# Altium footprint library Misc.PcbLib: 56 footprints (part 1 of 4)
Each footprint in its own frame and in the unit in brackets; x right, y up, seen from the top. Pads: shape width x height; smd on the part's side, far side on the other; paste and mask are expansions set on the pad; w line width, h text height; cw(c..) or ccw(c..) is an arc to the next point about the centre after c.
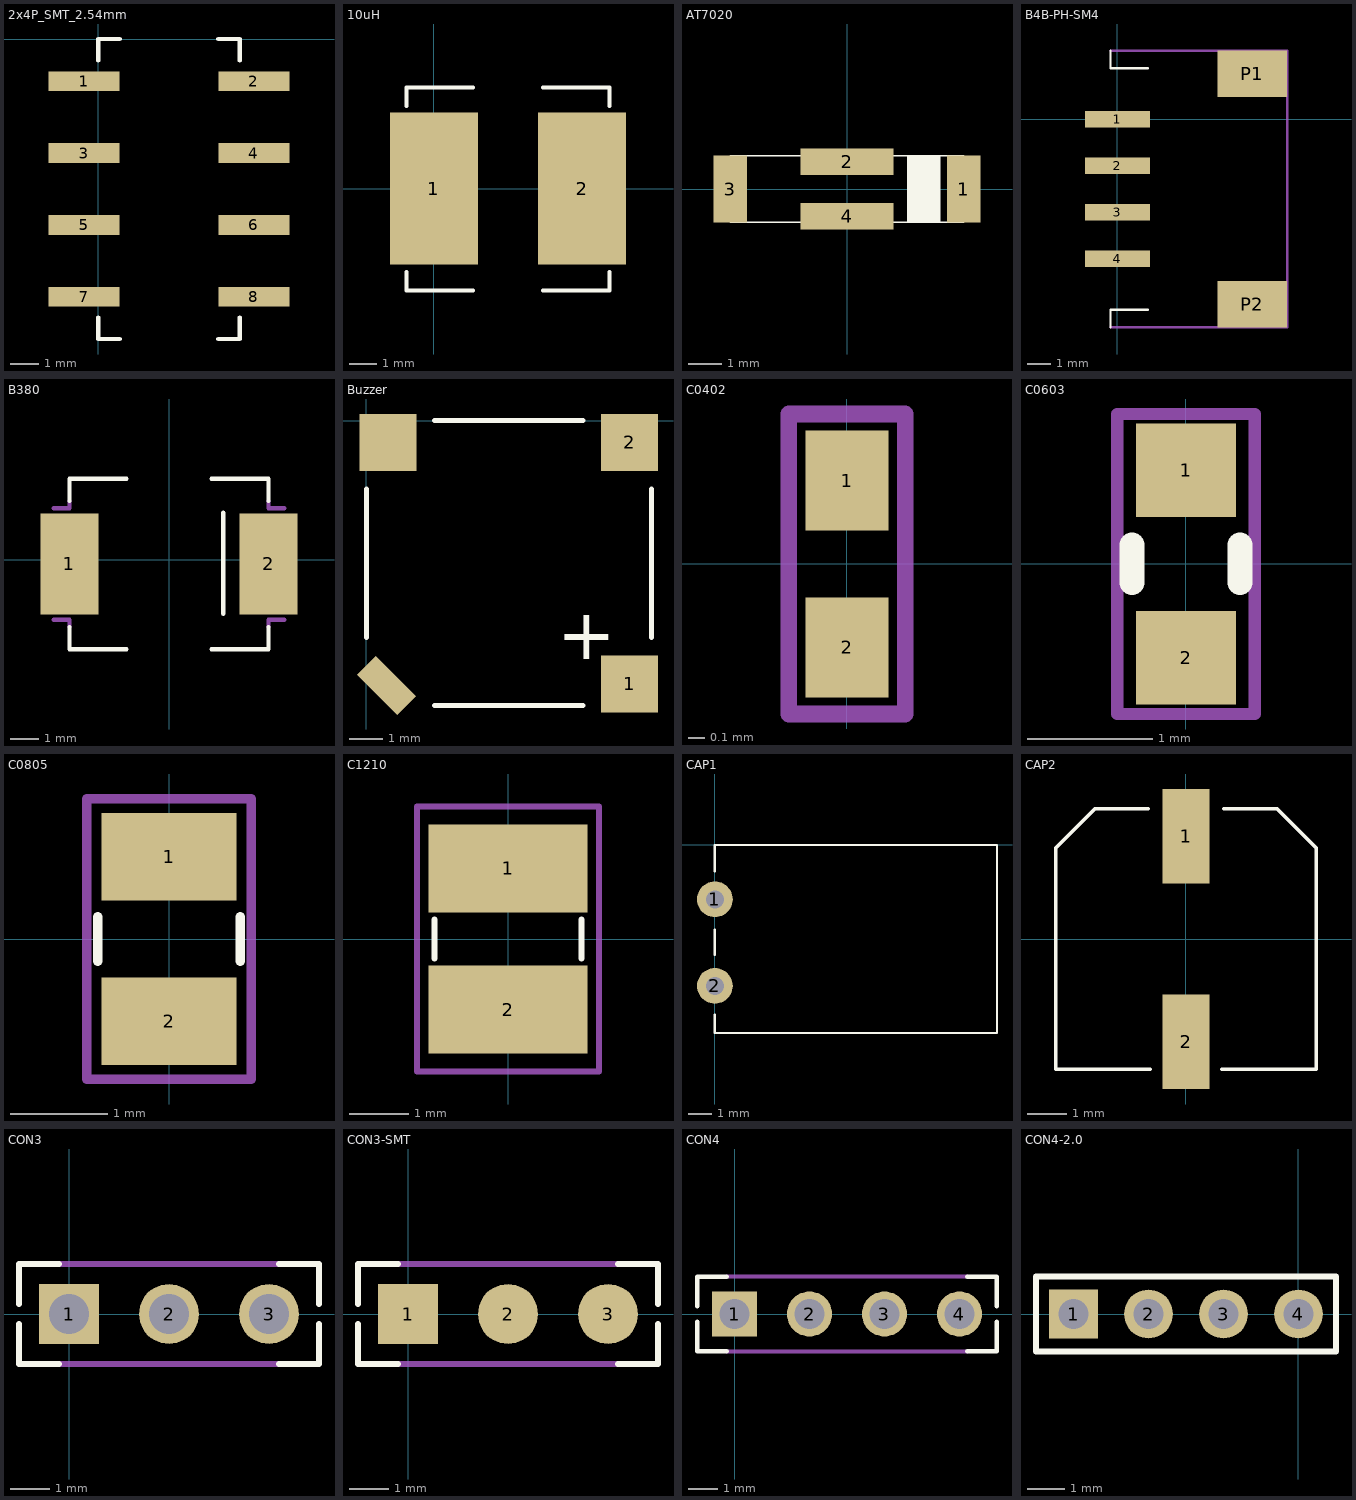
[diagram p0: the footprints below, top view; thin cyan lines are the x and y axes]

## 2x4P_SMT_2.54mm [mm]
height 5
pads (8):
  rect 2.5x0.7 smd: 1(-0.5,-1.49) 2(5.5,-1.49) 3(-0.5,-4.03) 4(5.5,-4.03) 5(-0.5,-6.57) 6(5.5,-6.57) 7(-0.5,-9.11) 8(5.5,-9.11)
Top Overlay:
  lines w0.152: 0,-9.838 0,-10.6 0.762,-10.6 ; 0,-0.762 0,0 0.762,0 ; 4.238,-10.6 5,-10.6 5,-9.838 ; 4.238,0 5,0 5,-0.762

## 10uH [mm] "7x7"
pads (2):
  rect 3.2x5.5 smd: 1(0,0) 2(5.358,0)
Top Overlay:
  lines w0.15: -0.991,-3.022 -0.991,-3.682 1.409,-3.682 ; -0.991,2.997 -0.991,3.658 1.409,3.658 ; 3.949,-3.682 6.349,-3.682 6.349,-3.022 ; 3.949,3.658 6.349,3.658 6.349,2.997

## AT7020 [mm]
pads (4):
  rect 1x2 smd: 1(3.5,0) 3(-3.5,0)
  rect 2.8x0.8 smd: 2(0,0.815) 4(0,-0.815)
Top Overlay:
  rectangle: -3.5,-1 -3.1,1
  rectangle: 1.8,-1 2.8,1
  rectangle: 1.8,-1 2.8,1
  rectangle: 3.1,-1 3.5,1
  lines w0.05: -3.5,-1 -3.5,1 3.5,1 3.5,-1 -3.5,-1

## B4B-PH-SM4 [mm]
pads (6):
  rect 2.8x0.7 smd: 1(0,0) 2(0,-2) 3(0,-4) 4(0,-6)
  rect 3x2 smd: P1(5.8,1.95) P2(5.8,-7.95)
Top Overlay:
  lines w0.1: -0.3,-8.95 -0.3,-8.19 1.3,-8.19 ; -0.3,2.95 -0.3,2.19 1.3,2.19
Mechanical 15:
  lines w0.1: -0.3,-8.95 1.3,-8.95 7.3,-8.95 7.3,2.95 1.3,2.95 -0.3,2.95

## B380 [mm] "diodes.com Schottky"
pads (2):
  rect 2x3.5 smd: 1(-3.45,-0.152) 2(3.45,-0.152)
Top Overlay:
  lines w0.15: -3.45,-2.337 -3.45,-3.102 -1.473,-3.102 ; -3.45,2.032 -3.45,2.798 -1.473,2.798 ; 1.473,-3.102 3.45,-3.102 3.45,-2.337 ; 1.473,2.798 3.45,2.798 3.45,2.032 ; 1.88,-1.88 1.88,1.626
Mechanical 15:
  lines w0.15: -3.996,-2.087 -3.45,-2.087 -3.45,-2.337 ; -3.996,1.782 -3.45,1.782 -3.45,2.032 ; 3.45,-2.337 3.45,-2.087 3.996,-2.087 ; 3.45,2.032 3.45,1.782 3.996,1.782

## Buzzer [mm]
height 3
pads (4):
  rect 1.7x1.7 smd: 1(7.85,-7.85) 2(7.85,-0.65) ""(0.65,-0.65)
  rect 1.7x0.8 smd rot 135: ""(0.6,-7.9)
Top Overlay:
  lines w0.15: 0,-6.468 0,-2.032 ; 2.032,-8.5 6.468,-8.5 ; 2.032,0 6.468,0 ; 8.5,-6.468 8.5,-2.032
  text "+" at 5.69,-7.112 h1.52

## C0402 [mm]
height 2
pads (2):
  rect 0.5x0.6 smd: 1(0,0.5) 2(0,-0.5)
Mechanical 15:
  lines w0.1: -0.35,-0.9 0.35,-0.9 0.35,0.9 -0.35,0.9 -0.35,-0.9

## C0603 [mm] "0.8(无超出)  2.25(超出0.325) 适合手焊"
height 2
pads (2):
  rect 0.8x0.75 smd: 1(0,0.75) 2(0,-0.75)
Top Overlay:
  lines w0.2: -0.432,-0.15 -0.432,0.15 ; 0.432,-0.15 0.432,0.15
Mechanical 15:
  lines w0.1: -0.55,-1.2 -0.55,1.2 0.55,1.2 0.55,-1.2 -0.55,-1.2

## C0805 [mm] "2.0x1.2   两边超出0.1 长度超出0.3"
height 2
pads (2):
  rect 1.4x0.9 smd: 1(0,0.85) 2(0,-0.85)
Top Overlay:
  lines w0.1: -0.737,-0.229 -0.737,0.229 ; 0.737,-0.229 0.737,0.229
Mechanical 15:
  lines w0.1: -0.85,-1.45 -0.85,1.45 0.85,1.45 0.85,-1.45 -0.85,-1.45

## C1210 [mm] "3.2x2.5   两边+0.1 长度+0.35"
height 2
pads (2):
  rect 2.7x1.5 smd: 1(0,1.2) 2(0,-1.2)
Top Overlay:
  lines w0.1: -1.25,-0.33 -1.25,0.33 ; 1.25,-0.33 1.25,0.33
Mechanical 15:
  lines w0.1: -1.55,-2.25 1.55,-2.25 1.55,2.25 -1.55,2.25 -1.55,-2.25

## CAP1 [mil] "电解电容 直插  卧式"
height 472.44
pads (2):
  round 60 hole 30: 1(0,-91) 2(0,-236)
Top Overlay:
  lines w3.94: 0,-284 0,-314.96 472.44,-314.96 472.44,0 0,0 0,-44 ; 0,-184 0,-142

## CAP2 [mm] "表贴电容"
pads (2):
  rect 1.2x2.4 smd: 1(0,2.6) 2(0,-2.6)
Top Overlay:
  lines w0.1: -0.965,3.3 -2.3,3.3 -3.3,2.3 -3.3,-3.3 -0.914,-3.3 ; 0.914,-3.3 3.3,-3.3 3.3,2.3 2.3,3.3 0.965,3.3

## CON3 [mil]
pads (3):
  rect 60x60 hole 40: 1(0,0)
  round 60 hole 40: 2(100,0) 3(200,0)
Top Overlay:
  lines w5.91: -50,-10 -50,-50 -10,-50 ; -50,10 -50,50 -10,50 ; 210,-50 250,-50 250,-10 ; 210,50 250,50 250,10
Mechanical 15:
  lines w5.91: -10,-50 210,-50 ; -10,50 210,50

## CON3-SMT [mil]
pads (3):
  rect 60x60 smd: 1(0,0)
  round 60 smd: 2(100,0) 3(200,0)
Top Overlay:
  lines w5.91: -50,-10 -50,-50 -10,-50 ; -50,10 -50,50 -10,50 ; 210,-50 250,-50 250,-10 ; 210,50 250,50 250,10
Mechanical 15:
  lines w5.91: -10,-50 210,-50 ; -10,50 210,50

## CON4 [mil] "2.54mm"
pads (4):
  rect 60x60 hole 40: 1(0,0)
  round 60 hole 40: 2(100,0) 3(200,0) 4(300,0)
Top Overlay:
  lines w6: -50,-10.63 -50,-50 -10.63,-50 ; -50,10.63 -50,50 -10.63,50 ; 310.63,-50 350,-50 350,-10.63 ; 310.63,50 350,50 350,10.63
Mechanical 15:
  lines w5.98: -10.63,-50 310.63,-50 ; -10.63,50 310.63,50

## CON4-2.0 [mm] "2.0mm"
pads (4):
  rect 1.3x1.3 hole 0.8: 1(-6,0)
  round 1.3 hole 0.8: 2(-4,0) 3(-2,0) 4(0,0)
Top Overlay:
  lines w0.15: -7,-1 1,-1 1,1 -7,1 -7,-1